# EAGLE library part RRINTERFACE-FEMALE (library RoboRioConnector)
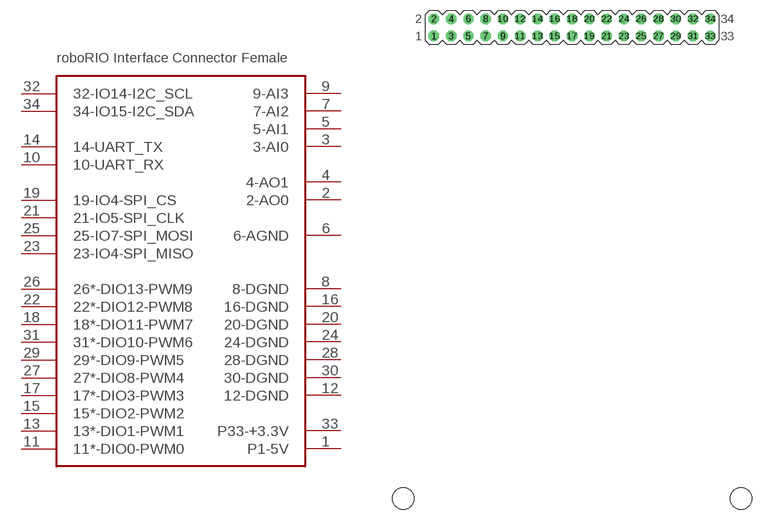
[diagram p0: symbol with the pads of RRINT-FEMALE; footprint RRINT-FEMALE]

Designator prefix -

## RRINTERFACE-FEMALE  [RRINT-FEMALE]
1  P1-5V
2  2-AO0
3  3-AI0
4  4-AO1
5  5-AI1
6  6-AGND
7  7-AI2
8  8-DGND
9  9-AI3
10  10-UART_RX
11  11*-DIO0-PWM0
12  12-DGND
13  13*-DIO1-PWM1
14  14-UART_TX
15  15*-DIO2-PWM2
16  16-DGND
17  17*-DIO3-PWM3
18  18*-DIO11-PWM7
19  19-IO4-SPI_CS
20  20-DGND
21  21-IO5-SPI_CLK
22  22*-DIO12-PWM8
23  23-IO4-SPI_MISO
24  24-DGND
25  25-IO7-SPI_MOSI
26  26*-DIO13-PWM9
27  27*-DIO8-PWM4
28  28-DGND
29  29*-DIO9-PWM5
30  30-DGND
31  31*-DIO10-PWM6
32  32-IO14-I2C_SCL
33  P33-+3.3V
34  34-IO15-I2C_SDA

## Footprint RRINT-FEMALE (pad centres in mm)
PIN HEADER
drill 1.016 octagon: 1 8.001,71.425; 2 8.001,73.965; 3 10.541,71.425; 4 10.541,73.965; 5 13.081,71.425; 6 13.081,73.965; 7 15.621,71.425; 8 15.621,73.965; 9 18.161,71.425; 10 18.161,73.965; 11 20.701,71.425; 12 20.701,73.965; 13 23.241,71.425; 14 23.241,73.965; 15 25.781,71.425; 16 25.781,73.965; 17 28.321,71.425; 18 28.321,73.965; 19 30.861,71.425; 20 30.861,73.965; 21 33.401,71.425; 22 33.401,73.965; 23 35.941,71.425; 24 35.941,73.965; 25 38.481,71.425; 26 38.481,73.965; 27 41.021,71.425; 28 41.021,73.965; 29 43.561,71.425; 30 43.561,73.965; 31 46.101,71.425; 32 46.101,73.965; 33 48.641,71.425; 34 48.641,73.965
hole 3.175 at 3.505,3.429
hole 3.175 at 53.137,3.429